# Altium schematic symbol library STUSB4500QTR.SchLib: 1 symbol
Pins are listed as number, name and electrical type; pins without a type are passive.

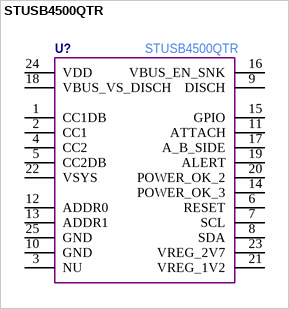
[diagram p0: symbol STUSB4500QTR]

## STUSB4500QTR
designator U?  Manufacturer Part Number: STUSB4500QTR  (hidden comment: *)
pins: 1 CC1DB, 2 CC1, 3 NU, 4 CC2, 5 CC2DB, 6 RESET, 7 SCL, 8 SDA, 9 DISCH, 10 GND, 11 ATTACH, 12 ADDR0, 13 ADDR1, 14 POWER_OK_3, 15 GPIO, 16 VBUS_EN_SNK, 17 A_B_SIDE, 18 VBUS_VS_DISCH, 19 ALERT, 20 POWER_OK_2, 21 VREG_1V2, 22 VSYS, 23 VREG_2V7, 24 VDD, 25 GND